# Altium schematic symbol library 2020-07-05_11-45-29.SchLib: 2 symbols
Pins are listed as number, name and electrical type; pins without a type are passive.

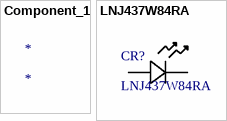
[diagram p0: symbols Component_1 to LNJ437W84RA]

## Component_1
designator *

## LNJ437W84RA
designator CR?
No Description Available; Vendor: Panasonic; Built_By: EMA_UL_Team; SourceLibrary: Panasonic_2012-04-02a; Type: DEV; Manufacturer_Part_Number: LNJ437W84RA; Copyright: Copyright (C) 2018 Accelerated Designs. All rights reserved; RefDes: RefDes
footprint LED_LNJ_PAN
pins: 1, 2